# Altium integrated library TI Amplifiers and Linear Special Function Amplifier.IntLib: 708 symbols (part 34 of 47)
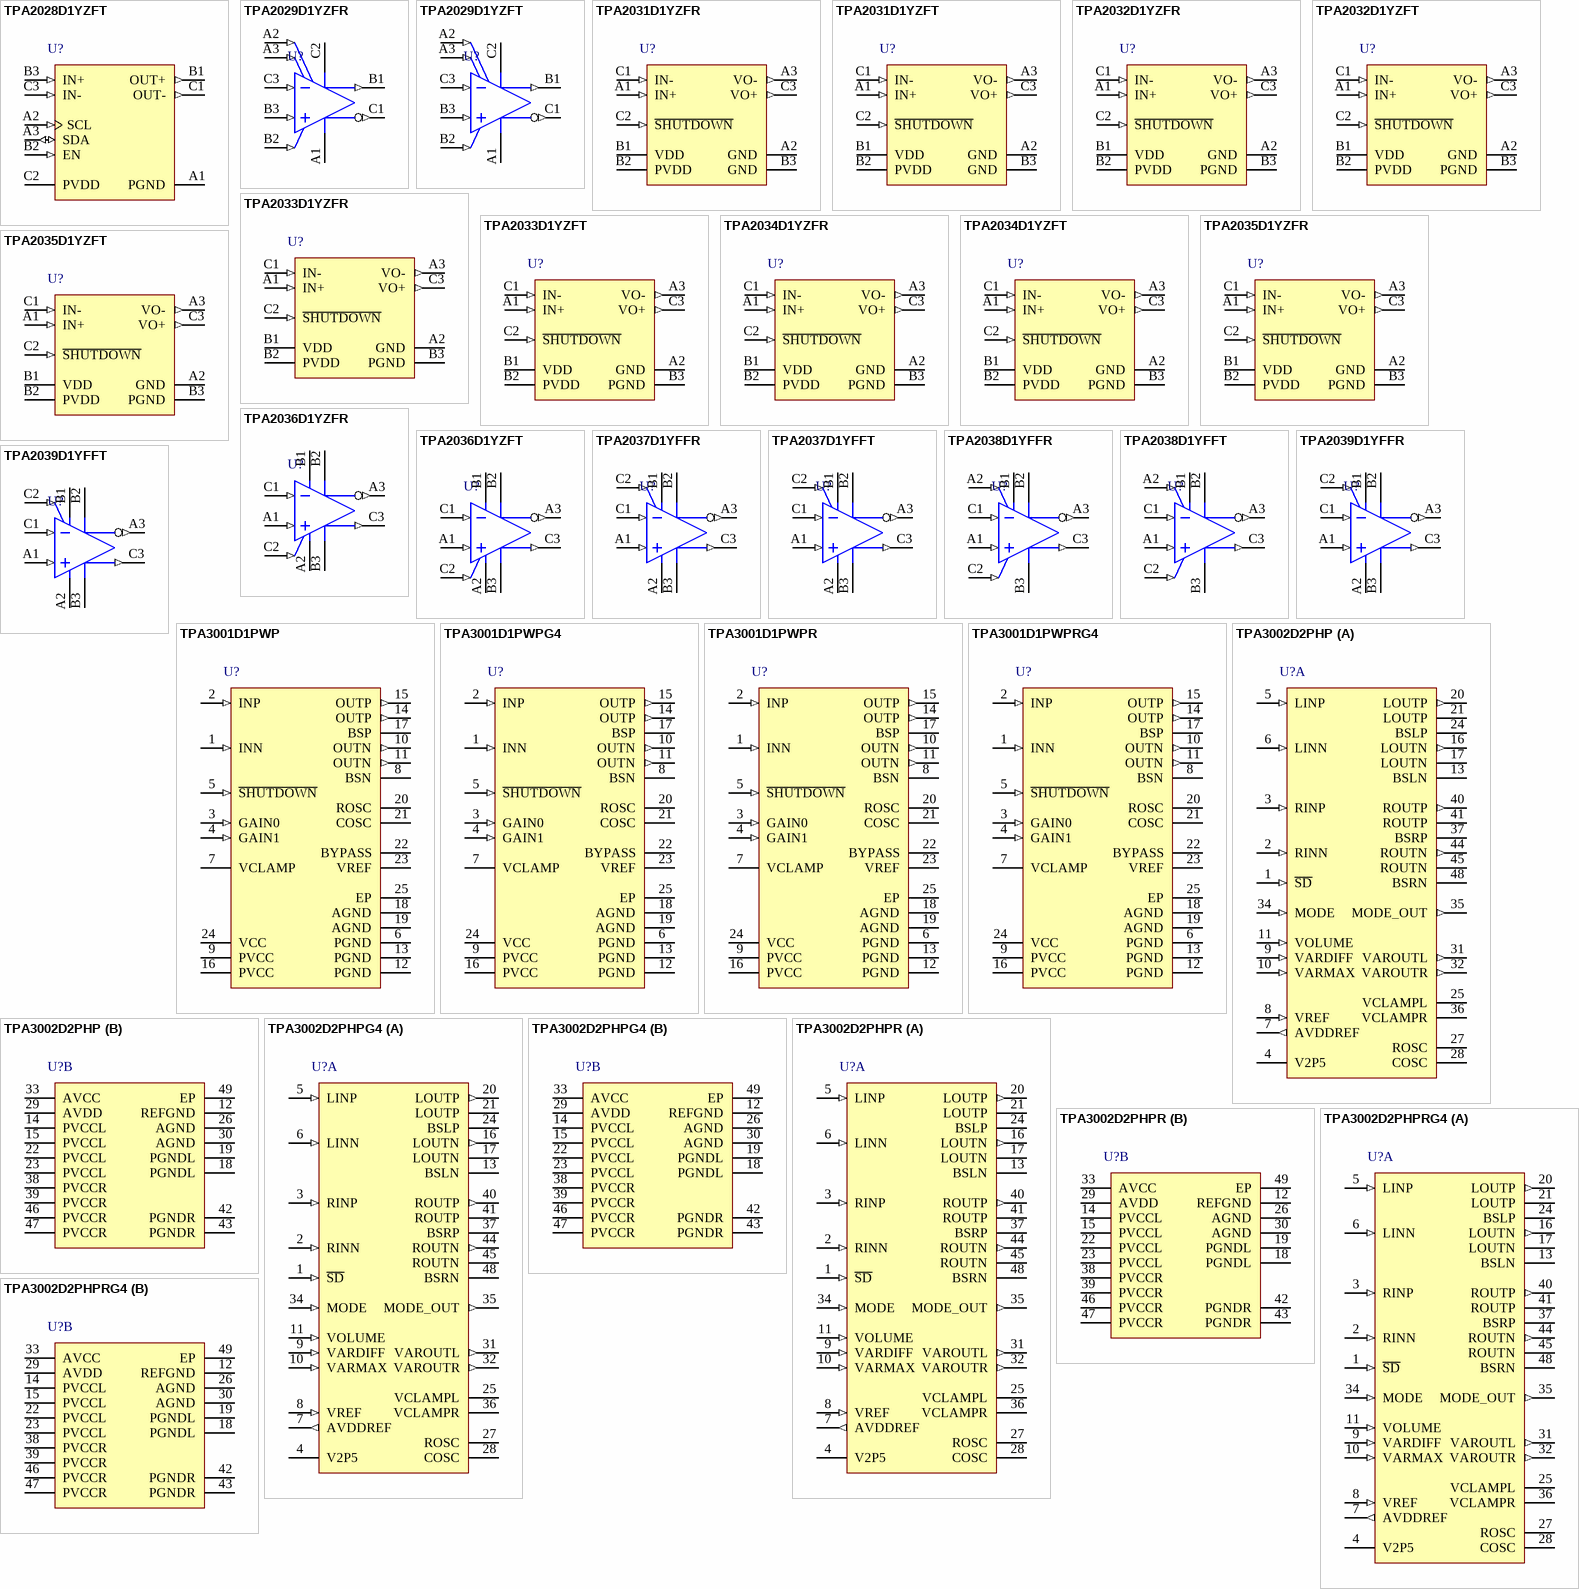
[diagram p72: symbols TPA2028D1YZFT to TPA3002D2PHPRG4]

## TPA2036D1YZFR
designator U?
2.5-W Mono Class-D Audio Amplifier with Variable Gain and Short Circuit Auto-Recovery, -40 to 85 degC, 9-pin BGA (YZF9), Green (RoHS & no Sb/Br); Manufacturer: Texas Instruments; PartNumber: TPA2036D1YZFR; Output Power(W): 2.5; PSRR(dB): -75; SubFamily: Dynamic Speaker; Supply Max(Max)(Volt): 5.5; DatasheetVersion: SLOS589; PackageVersion: 4205058-4/P, 07/2013; PackageReference: YZF9; PackageDescription: 9-Ball Silicon Grid Array, Body 1.625 x 1.625 mm, Pitch 0.5 mm; Supplier 1: Digi-Key; Supplier Part Number 1: 296-23917-2-ND; Supplier 2: Digi-Key; Supplier Part Number 2: 296-23917-1-ND; Supplier 3: Digi-Key; Supplier Part Number 3: 296-23917-6-ND; Supplier 4: Mouser; Supplier Part Number 4: 595-TPA2036D1YZFR; Eco-Plan: Green (RoHS & no Sb/Br); Speaker Amp Type: Class-D; Speaker Channels: Mono; Supply Min(Min)(Volt): 2.5; Mounting Technology: Surface Mount; ComponentLink1Description: Manufacturer URL; ComponentLink1URL: http://www.ti.com/; ComponentLink2Description: Datasheet; ComponentLink2URL: http://www.ti.com/general/docs/lit/getliterature.tsp?genericPartNumber=TPA2036D1&fileType=pdf; ComponentLink3Description: Package Specification; ComponentLink3URL: http://www.ti.com/lit/ml/mxbg027m/mxbg027m.pdf
footprint TI-YZF9 (BGA, 9-Leads, Body 1.6245x1.6245mm, Pitch 0.5mm)
pins: A1 IN+ (in) "Positive differential input", A2 GND (power) "High-current ground", A3 VO- (out) "Negative BTL output", B1 VDD (power) "Power supply", B2 VDD (power) "Power supply", B3 GND (power) "Positive BTL output", C1 IN- (in) "Negative differential input", C2 ~{SHUTDOWN} (in) "Shutdown terminal (active low logic)", C3 VO+ (out) "Positive BTL output"

## TPA2036D1YZFT
designator U?
2.5-W Mono Class-D Audio Amplifier with Variable Gain and Short Circuit Auto-Recovery, -40 to 85 degC, 9-pin BGA (YZF9), Green (RoHS & no Sb/Br); Manufacturer: Texas Instruments; PartNumber: TPA2036D1YZFT; Output Power(W): 2.5; PSRR(dB): -75; SubFamily: Dynamic Speaker; Supply Max(Max)(Volt): 5.5; DatasheetVersion: SLOS589; PackageVersion: 4205058-4/P, 07/2013; PackageReference: YZF9; PackageDescription: 9-Ball Silicon Grid Array, Body 1.625 x 1.625 mm, Pitch 0.5 mm; Supplier 1: Digi-Key; Supplier Part Number 1: 296-32456-2-ND; Supplier 2: Digi-Key; Supplier Part Number 2: 296-32456-1-ND; Supplier 3: Digi-Key; Supplier Part Number 3: 296-32456-6-ND; Supplier 4: Newark; Supplier Part Number 4: 19P7477; Supplier 5: Newark; Supplier Part Number 5: 08X6508; Supplier 6: Mouser; Supplier Part Number 6: 595-TPA2036D1YZFT; Eco-Plan: Green (RoHS & no Sb/Br); Speaker Amp Type: Class-D; Speaker Channels: Mono; Supply Min(Min)(Volt): 2.5; Mounting Technology: Surface Mount; ComponentLink1Description: Manufacturer URL; ComponentLink1URL: http://www.ti.com/; ComponentLink2Description: Datasheet; ComponentLink2URL: http://www.ti.com/general/docs/lit/getliterature.tsp?genericPartNumber=TPA2036D1&fileType=pdf; ComponentLink3Description: Package Specification; ComponentLink3URL: http://www.ti.com/lit/ml/mxbg027m/mxbg027m.pdf
footprint TI-YZF9 (BGA, 9-Leads, Body 1.6245x1.6245mm, Pitch 0.5mm)
pins: A1 IN+ (in) "Positive differential input", A2 GND (power) "High-current ground", A3 VO- (out) "Negative BTL output", B1 VDD (power) "Power supply", B2 VDD (power) "Power supply", B3 GND (power) "Positive BTL output", C1 IN- (in) "Negative differential input", C2 ~{SHUTDOWN} (in) "Shutdown terminal (active low logic)", C3 VO+ (out) "Positive BTL output"

## TPA2037D1YFFR
designator U?
Fixed Gain 3.2 W Mono Class-D with Integrated DAC Noise Filter, -40 to 85 degC, 9-pin BGA (YFF9), Green (RoHS & no Sb/Br); Manufacturer: Texas Instruments; PartNumber: TPA2037D1YFFR; Output Power(W): 3.24; PSRR(dB): 81; SubFamily: Dynamic Speaker; Supply Max(Max)(Volt): 5.5; Supply Min(Min)(Volt): 2.5; DatasheetVersion: SLOS648B; PackageVersion: 4207625-6/AL, 05/2013; PackageReference: YFF9; PackageDescription: 9-Ball Silicon Grid Array, Body 1.214 x 1.16 mm, Pitch 0.4 mm; Supplier 1: Digi-Key; Supplier Part Number 1: 296-25337-2-ND; Supplier 2: Digi-Key; Supplier Part Number 2: 296-25337-1-ND; Supplier 3: Digi-Key; Supplier Part Number 3: 296-25337-6-ND; Supplier 4: Mouser; Supplier Part Number 4: 595-TPA2037D1YFFR; Eco-Plan: Green (RoHS & no Sb/Br); Speaker Amp Type: Class-D; Speaker Channels: Mono; Mounting Technology: Surface Mount; ComponentLink1Description: Manufacturer URL; ComponentLink1URL: http://www.ti.com/; ComponentLink2Description: Datasheet; ComponentLink2URL: http://www.ti.com/general/docs/lit/getliterature.tsp?genericPartNumber=TPA2037D1&fileType=pdf; ComponentLink3Description: Package Specification; ComponentLink3URL: http://www.ti.com/litv/pdf/mxbg144
footprint TI-YFF9-1214X1160DE (BGA, 9-Balls, Body 1.214x1.16mm, Pitch 0.4mm)
pins: A1 IN+ (in) "Positive differential audio input", A2 GND (power) "Analog ground terminal. Must be connected to same potential as PGND using a direct connection to a single point ground.", A3 VO- (out) "Negative BTL audio output", B1 VDD (power) "Power supply terminal. Must be connected to same power supply as PVDD using a direct connection. Voltage must be within values listed in Recommended Operating Conditions table.", B2 PVDD (power) "High-current Power supply terminal. Must be connected to same power supply as VDD using a direct connection. Voltage must be within values listed in Recommended Operating Conditions table.", B3 PGND (power) "High-current Analog ground terminal. Must be connected to same potential as GND using a direct connection to a single point ground.", C1 IN- (in) "Negative differential audio input", C2 EN (in) "Shutdown terminal. When terminal is low the device is put into Shutdown mode.", C3 VO+ (out) "Positive BTL audio output"

## TPA2037D1YFFT
designator U?
Fixed Gain 3.2 W Mono Class-D with Integrated DAC Noise Filter, -40 to 85 degC, 9-pin BGA (YFF9), Green (RoHS & no Sb/Br); Manufacturer: Texas Instruments; PartNumber: TPA2037D1YFFT; Output Power(W): 3.24; PSRR(dB): 81; SubFamily: Dynamic Speaker; Supply Max(Max)(Volt): 5.5; Supply Min(Min)(Volt): 2.5; DatasheetVersion: SLOS648B; PackageVersion: 4207625-6/AL, 05/2013; PackageReference: YFF9; PackageDescription: 9-Ball Silicon Grid Array, Body 1.214 x 1.16 mm, Pitch 0.4 mm; Supplier 1: Digi-Key; Supplier Part Number 1: 296-25343-2-ND; Supplier 2: Digi-Key; Supplier Part Number 2: 296-25343-1-ND; Supplier 3: Digi-Key; Supplier Part Number 3: 296-25343-6-ND; Supplier 4: Newark; Supplier Part Number 4: 51R5928; Supplier 5: Mouser; Supplier Part Number 5: 595-TPA2037D1YFFT; Eco-Plan: Green (RoHS & no Sb/Br); Speaker Amp Type: Class-D; Speaker Channels: Mono; Mounting Technology: Surface Mount; ComponentLink1Description: Manufacturer URL; ComponentLink1URL: http://www.ti.com/; ComponentLink2Description: Datasheet; ComponentLink2URL: http://www.ti.com/general/docs/lit/getliterature.tsp?genericPartNumber=TPA2037D1&fileType=pdf; ComponentLink3Description: Package Specification; ComponentLink3URL: http://www.ti.com/litv/pdf/mxbg144
footprint TI-YFF9-1214X1160DE (BGA, 9-Balls, Body 1.214x1.16mm, Pitch 0.4mm)
pins: A1 IN+ (in) "Positive differential audio input", A2 GND (power) "Analog ground terminal. Must be connected to same potential as PGND using a direct connection to a single point ground.", A3 VO- (out) "Negative BTL audio output", B1 VDD (power) "Power supply terminal. Must be connected to same power supply as PVDD using a direct connection. Voltage must be within values listed in Recommended Operating Conditions table.", B2 PVDD (power) "High-current Power supply terminal. Must be connected to same power supply as VDD using a direct connection. Voltage must be within values listed in Recommended Operating Conditions table.", B3 PGND (power) "High-current Analog ground terminal. Must be connected to same potential as GND using a direct connection to a single point ground.", C1 IN- (in) "Negative differential audio input", C2 EN (in) "Shutdown terminal. When terminal is low the device is put into Shutdown mode.", C3 VO+ (out) "Positive BTL audio output"

## TPA2038D1YFFR
designator U?
Variable Gain 3.2 W Mono Class-D with Integrated DAC Noise Filter, -40 to 85 degC, 9-pin BGA (YFF9), Green (RoHS & no Sb/Br); Manufacturer: Texas Instruments; PartNumber: TPA2038D1YFFR; Output Power(W): 3.24; PSRR(dB): 81; SubFamily: Dynamic Speaker; Supply Max(Max)(Volt): 5.5; Supply Min(Min)(Volt): 2.5; DatasheetVersion: SLOS697A; PackageVersion: 4207625-6/AL, 05/2013; PackageReference: YFF9; PackageDescription: 9-Ball Silicon Grid Array, Body 1.214 x 1.16 mm, Pitch 0.4 mm; Supplier 1: Digi-Key; Supplier Part Number 1: 296-29701-2-ND; Supplier 2: Digi-Key; Supplier Part Number 2: 296-29701-1-ND; Supplier 3: Digi-Key; Supplier Part Number 3: 296-29701-6-ND; Supplier 4: Mouser; Supplier Part Number 4: 595-TPA2038D1YFFR; Eco-Plan: Green (RoHS & no Sb/Br); Speaker Amp Type: Class-D; Speaker Channels: Mono; Mounting Technology: Surface Mount; ComponentLink1Description: Manufacturer URL; ComponentLink1URL: http://www.ti.com/; ComponentLink2Description: Datasheet; ComponentLink2URL: http://www.ti.com/general/docs/lit/getliterature.tsp?genericPartNumber=TPA2038D1&fileType=pdf; ComponentLink3Description: Package Specification; ComponentLink3URL: http://www.ti.com/litv/pdf/mxbg144
footprint TI-YFF9-1214X1160DE (BGA, 9-Balls, Body 1.214x1.16mm, Pitch 0.4mm)
pins: A1 IN+ (in) "Positive audio input.", A2 GAIN (in) "Gain select. Set to GND for 12 dB; set to VDD for 6 dB.", A3 VO- (out) "Negative audio output.", B1 VDD (power) "Power supply terminal. Connect to PVDD using a direct connection.", B2 PVDD (power) "Class-D output power supply. Connect to VDD using a direct connection.", B3 PGND (power) "Ground.", C1 IN- (in) "Negative audio input.", C2 EN (in) "Enable. Set to logic high to enable device.", C3 VO+ (out) "Positive audio output."

## TPA2038D1YFFT
designator U?
Variable Gain 3.2 W Mono Class-D with Integrated DAC Noise Filter, -40 to 85 degC, 9-pin BGA (YFF9), Green (RoHS & no Sb/Br); Manufacturer: Texas Instruments; PartNumber: TPA2038D1YFFT; Output Power(W): 3.24; PSRR(dB): 81; SubFamily: Dynamic Speaker; Supply Max(Max)(Volt): 5.5; Supply Min(Min)(Volt): 2.5; DatasheetVersion: SLOS697A; PackageVersion: 4207625-6/AL, 05/2013; PackageReference: YFF9; PackageDescription: 9-Ball Silicon Grid Array, Body 1.214 x 1.16 mm, Pitch 0.4 mm; Supplier 1: Digi-Key; Supplier Part Number 1: TPA2038D1YFFT-ND; Supplier 2: Newark; Supplier Part Number 2: 71T5430; Supplier 3: Mouser; Supplier Part Number 3: 595-TPA2038D1YFFT; Eco-Plan: Green (RoHS & no Sb/Br); Speaker Amp Type: Class-D; Speaker Channels: Mono; Mounting Technology: Surface Mount; ComponentLink1Description: Manufacturer URL; ComponentLink1URL: http://www.ti.com/; ComponentLink2Description: Datasheet; ComponentLink2URL: http://www.ti.com/general/docs/lit/getliterature.tsp?genericPartNumber=TPA2038D1&fileType=pdf; ComponentLink3Description: Package Specification; ComponentLink3URL: http://www.ti.com/litv/pdf/mxbg144
footprint TI-YFF9-1214X1160DE (BGA, 9-Balls, Body 1.214x1.16mm, Pitch 0.4mm)
pins: A1 IN+ (in) "Positive audio input.", A2 GAIN (in) "Gain select. Set to GND for 12 dB; set to VDD for 6 dB.", A3 VO- (out) "Negative audio output.", B1 VDD (power) "Power supply terminal. Connect to PVDD using a direct connection.", B2 PVDD (power) "Class-D output power supply. Connect to VDD using a direct connection.", B3 PGND (power) "Ground.", C1 IN- (in) "Negative audio input.", C2 EN (in) "Enable. Set to logic high to enable device.", C3 VO+ (out) "Positive audio output."

## TPA2039D1YFFR
designator U?
Fixed Gain 3.2 W Mono Class-D with Integrated DAC Noise Filter, -40 to 85 degC, 9-pin BGA (YFF9), Green (RoHS & no Sb/Br); Manufacturer: Texas Instruments; PartNumber: TPA2039D1YFFR; Output Power(W): 3.24; PSRR(dB): 82; SubFamily: Dynamic Speaker; Supply Max(Max)(Volt): 5.5; Supply Min(Min)(Volt): 2.5; DatasheetVersion: SLOS652A; PackageVersion: 4207625-6/AL, 05/2013; PackageReference: YFF9; PackageDescription: 9-Ball Silicon Grid Array, Body 1.214 x 1.16 mm, Pitch 0.4 mm; Supplier 1: Digi-Key; Supplier Part Number 1: 296-25571-2-ND; Supplier 2: Digi-Key; Supplier Part Number 2: 296-25571-1-ND; Supplier 3: Digi-Key; Supplier Part Number 3: 296-25571-6-ND; Supplier 4: Newark; Supplier Part Number 4: 64R0727; Supplier 5: Mouser; Supplier Part Number 5: 595-TPA2039D1YFFR; Eco-Plan: Green (RoHS & no Sb/Br); Speaker Amp Type: Class-D; Speaker Channels: Mono; Mounting Technology: Surface Mount; ComponentLink1Description: Manufacturer URL; ComponentLink1URL: http://www.ti.com/; ComponentLink2Description: Datasheet; ComponentLink2URL: http://www.ti.com/general/docs/lit/getliterature.tsp?genericPartNumber=TPA2039D1&fileType=pdf; ComponentLink3Description: Package Specification; ComponentLink3URL: http://www.ti.com/litv/pdf/mxbg144
footprint TI-YFF9-1214X1160DE (BGA, 9-Balls, Body 1.214x1.16mm, Pitch 0.4mm)
pins: A1 IN+ (in) "Positive differential audio input", A2 GND (power) "Analog ground terminal. Must be connected to same potential as PGND using a direct connection to a single point ground.", A3 VO- (out) "Negative BTL audio output", B1 VDD (power) "Power supply terminal. Must be connected to same power supply as PVDD using a direct connection. Voltage must be within values listed in Recommended Operating Conditions table.", B2 PVDD (power) "High-current Power supply terminal. Must be connected to same power supply as VDD using a direct connection. Voltage must be within values listed in Recommended Operating Conditions table.", B3 PGND (power) "High-current Analog ground terminal. Must be connected to same potential as GND using a direct connection to a single point ground.", C1 IN- (in) "Negative differential audio input", C2 EN (in) "Shutdown terminal. When terminal is low the device is put into Shutdown mode.", C3 VO+ (out) "Positive BTL audio output"

## TPA2039D1YFFT
designator U?
Fixed Gain 3.2 W Mono Class-D with Integrated DAC Noise Filter, -40 to 85 degC, 9-pin BGA (YFF9), Green (RoHS & no Sb/Br); Manufacturer: Texas Instruments; PartNumber: TPA2039D1YFFT; Output Power(W): 3.24; PSRR(dB): 82; SubFamily: Dynamic Speaker; Supply Max(Max)(Volt): 5.5; Supply Min(Min)(Volt): 2.5; DatasheetVersion: SLOS652A; PackageVersion: 4207625-6/AL, 05/2013; PackageReference: YFF9; PackageDescription: 9-Ball Silicon Grid Array, Body 1.214 x 1.16 mm, Pitch 0.4 mm; Supplier 1: Digi-Key; Supplier Part Number 1: 296-32457-2-ND; Supplier 2: Digi-Key; Supplier Part Number 2: 296-32457-1-ND; Supplier 3: Digi-Key; Supplier Part Number 3: 296-32457-6-ND; Supplier 4: Newark; Supplier Part Number 4: 64R0728; Supplier 5: Mouser; Supplier Part Number 5: 595-TPA2039D1YFFT; Eco-Plan: Green (RoHS & no Sb/Br); Speaker Amp Type: Class-D; Speaker Channels: Mono; Mounting Technology: Surface Mount; ComponentLink1Description: Manufacturer URL; ComponentLink1URL: http://www.ti.com/; ComponentLink2Description: Datasheet; ComponentLink2URL: http://www.ti.com/general/docs/lit/getliterature.tsp?genericPartNumber=TPA2039D1&fileType=pdf; ComponentLink3Description: Package Specification; ComponentLink3URL: http://www.ti.com/litv/pdf/mxbg144
footprint TI-YFF9-1214X1160DE (BGA, 9-Balls, Body 1.214x1.16mm, Pitch 0.4mm)
pins: A1 IN+ (in) "Positive differential audio input", A2 GND (power) "Analog ground terminal. Must be connected to same potential as PGND using a direct connection to a single point ground.", A3 VO- (out) "Negative BTL audio output", B1 VDD (power) "Power supply terminal. Must be connected to same power supply as PVDD using a direct connection. Voltage must be within values listed in Recommended Operating Conditions table.", B2 PVDD (power) "High-current Power supply terminal. Must be connected to same power supply as VDD using a direct connection. Voltage must be within values listed in Recommended Operating Conditions table.", B3 PGND (power) "High-current Analog ground terminal. Must be connected to same potential as GND using a direct connection to a single point ground.", C1 IN- (in) "Negative differential audio input", C2 EN (in) "Shutdown terminal. When terminal is low the device is put into Shutdown mode.", C3 VO+ (out) "Positive BTL audio output"

## TPA3001D1PWP
designator U?
20 W Mono Class-D Audio Power Amplifier, -40 to 85 degC, 24-pin SOP (PWP24), Green (RoHS & no Sb/Br); Manufacturer: Texas Instruments; PartNumber: TPA3001D1PWP; Analog Supply Max [V]: 18; Analog Supply Min [V]: 8; Input Type: Analog; Max. Number of Speaker Outputs: 1; SubFamily: Mid/High-Power Amplifier; DatasheetVersion: SLOS398E; PackageVersion: 4073225-5/I, 05/2011; PackageReference: PWP24-4420X1950TP; PackageDescription: 24-Pin Plastic Small Outline, Body 4.4 x 7.8 mm, Pitch 0.65 mm; Supplier 1: Digi-Key; Supplier Part Number 1: 296-26879-5-ND; Supplier 2: Newark; Supplier Part Number 2: 72K9590; Supplier 3: Mouser; Supplier Part Number 3: 595-TPA3001D1PWP; Eco-Plan: Green (RoHS & no Sb/Br); Power Stage Supply Min(V): 8; Mounting Technology: Surface Mount; Code_JEDEC: MO-153; ComponentLink1Description: Manufacturer URL; ComponentLink1URL: http://www.ti.com/; ComponentLink2Description: Datasheet; ComponentLink2URL: http://www.ti.com/general/docs/lit/getliterature.tsp?genericPartNumber=TPA3001D1&fileType=pdf; ComponentLink3Description: Package Specification; ComponentLink3URL: http://www.ti.com/lit/ds/symlink/tps65101.pdf
footprint TI-PWP24-4420X1950TP_N (SOP, 24-Leads, Body 7.9x4.5mm, Pitch 0.65mm, Thermal Pad 4.87x2.4mm, IPC Medium Density)
footprint TI-PWP24-4420X1950TP_L (SOP, 24-Leads, Body 7.9x4.5mm, Pitch 0.65mm, Thermal Pad 4.87x2.4mm, IPC High Density)
footprint TI-PWP24-4420X1950TP_M (SOP, 24-Leads, Body 7.9x4.5mm, Pitch 0.65mm, Thermal Pad 4.87x2.4mm, IPC Low Density)
pins: 1 INN (in) "Negative differential input", 2 INP (in) "Positive differential input", 3 GAIN0 (in) "Bit 0 of gain control (see Table 1 for gain settings)", 4 GAIN1 (in) "Bit 1 of gain control (see Table 1 for gain settings)", 5 ~{SHUTDOWN} (in) "Shutdown terminal (negative logic), TTL compatible, 21-V compliant", 6 PGND (power) "Power ground", 7 VCLAMP "Connect 1-uF capacitor to ground to provide reference voltage for H-bridge gates", 8 BSN "Bootstrap terminal for high-side gate drive of negative BTL output (connect a 0.22-uF capacitor with a 51-ohm resistor in series from OUTN to BSN)", 9 PVCC (power) "High-voltage power supply (for output stages)", 10 OUTN (out) "Negative BTL output, connect Schottky diode from PGND to OUTN for short-circuit protection", 11 OUTN (out) "Negative BTL output, connect Schottky diode from PGND to OUTN for short-circuit protection", 12 PGND (power) "Power ground", 13 PGND (power) "Power ground", 14 OUTP (out) "Positive BTL output, connect Schottky diode from PGND to OUTP for short-circuit protection", 15 OUTP (out) "Positive BTL output, connect Schottky diode from PGND to OUTP for short-circuit protection", 16 PVCC (power) "High-voltage power supply (for output stages)", 17 BSP "Bootstrap terminal for high-side gate drive of positive BTL output (connect a 0.22-uF capacitor with a 51-ohm resistor in series from OUTP to BSP)", 18 AGND (power) "Analog ground terminal", 19 AGND (power) "Analog ground terminal", 20 ROSC "Connect a 120-kohm resistor to ground to set oscillation frequency", 21 COSC "Connect a 220-pF capacitor to ground to set oscillation frequency", 22 BYPASS "Connect 1-uF capacitor to ground for BYPASS voltage filtering", 23 VREF "5-V internal regulator for control circuitry (connect a 0.1-uF to 1-uF capacitor to ground)", 24 VCC (power) "Analog high-voltage power supply", 25 EP (power) "Connect to AGND and PGND - should be star point for both grounds. Internal resistive connection to AGND. Thermal vias on the PCB should connect this pad to a large copper area on an internal or bottom layer for the best (See Datasheet)"

## TPA3001D1PWPG4
designator U?
20 W Mono Class-D Audio Power Amplifier, -40 to 85 degC, 24-pin SOP (PWP24), Green (RoHS & no Sb/Br); Manufacturer: Texas Instruments; PartNumber: TPA3001D1PWPG4; Analog Supply Max [V]: 18; Analog Supply Min [V]: 8; Input Type: Analog; Max. Number of Speaker Outputs: 1; SubFamily: Mid/High-Power Amplifier; DatasheetVersion: SLOS398E; PackageVersion: 4073225-5/I, 05/2011; PackageReference: PWP24-4420X1950TP; PackageDescription: 24-Pin Plastic Small Outline, Body 4.4 x 7.8 mm, Pitch 0.65 mm; Supplier 1: Digi-Key; Supplier Part Number 1: TPA3001D1PWPG4-ND; Supplier 2: Farnell; Supplier Part Number 2: 1207310; Supplier 3: Newark; Supplier Part Number 3: 24M8502; Supplier 4: Newark; Supplier Part Number 4: 58K6873; Supplier 5: Mouser; Supplier Part Number 5: 595-TPA3001D1PWPG4; Eco-Plan: Green (RoHS & no Sb/Br); Power Stage Supply Min(V): 8; Mounting Technology: Surface Mount; Code_JEDEC: MO-153; ComponentLink1Description: Manufacturer URL; ComponentLink1URL: http://www.ti.com/; ComponentLink2Description: Datasheet; ComponentLink2URL: http://www.ti.com/general/docs/lit/getliterature.tsp?genericPartNumber=TPA3001D1&fileType=pdf; ComponentLink3Description: Package Specification; ComponentLink3URL: http://www.ti.com/lit/ds/symlink/tps65101.pdf
footprint TI-PWP24-4420X1950TP_N (SOP, 24-Leads, Body 7.9x4.5mm, Pitch 0.65mm, Thermal Pad 4.87x2.4mm, IPC Medium Density)
footprint TI-PWP24-4420X1950TP_L (SOP, 24-Leads, Body 7.9x4.5mm, Pitch 0.65mm, Thermal Pad 4.87x2.4mm, IPC High Density)
footprint TI-PWP24-4420X1950TP_M (SOP, 24-Leads, Body 7.9x4.5mm, Pitch 0.65mm, Thermal Pad 4.87x2.4mm, IPC Low Density)
pins: 1 INN (in) "Negative differential input", 2 INP (in) "Positive differential input", 3 GAIN0 (in) "Bit 0 of gain control (see Table 1 for gain settings)", 4 GAIN1 (in) "Bit 1 of gain control (see Table 1 for gain settings)", 5 ~{SHUTDOWN} (in) "Shutdown terminal (negative logic), TTL compatible, 21-V compliant", 6 PGND (power) "Power ground", 7 VCLAMP "Connect 1-uF capacitor to ground to provide reference voltage for H-bridge gates", 8 BSN "Bootstrap terminal for high-side gate drive of negative BTL output (connect a 0.22-uF capacitor with a 51-ohm resistor in series from OUTN to BSN)", 9 PVCC (power) "High-voltage power supply (for output stages)", 10 OUTN (out) "Negative BTL output, connect Schottky diode from PGND to OUTN for short-circuit protection", 11 OUTN (out) "Negative BTL output, connect Schottky diode from PGND to OUTN for short-circuit protection", 12 PGND (power) "Power ground", 13 PGND (power) "Power ground", 14 OUTP (out) "Positive BTL output, connect Schottky diode from PGND to OUTP for short-circuit protection", 15 OUTP (out) "Positive BTL output, connect Schottky diode from PGND to OUTP for short-circuit protection", 16 PVCC (power) "High-voltage power supply (for output stages)", 17 BSP "Bootstrap terminal for high-side gate drive of positive BTL output (connect a 0.22-uF capacitor with a 51-ohm resistor in series from OUTP to BSP)", 18 AGND (power) "Analog ground terminal", 19 AGND (power) "Analog ground terminal", 20 ROSC "Connect a 120-kohm resistor to ground to set oscillation frequency", 21 COSC "Connect a 220-pF capacitor to ground to set oscillation frequency", 22 BYPASS "Connect 1-uF capacitor to ground for BYPASS voltage filtering", 23 VREF "5-V internal regulator for control circuitry (connect a 0.1-uF to 1-uF capacitor to ground)", 24 VCC (power) "Analog high-voltage power supply", 25 EP (power) "Connect to AGND and PGND - should be star point for both grounds. Internal resistive connection to AGND. Thermal vias on the PCB should connect this pad to a large copper area on an internal or bottom layer for the best (See Datasheet)"

## TPA3001D1PWPR
designator U?
20 W Mono Class-D Audio Power Amplifier, -40 to 85 degC, 24-pin SOP (PWP24), Green (RoHS & no Sb/Br); Manufacturer: Texas Instruments; PartNumber: TPA3001D1PWPR; Analog Supply Max [V]: 18; Analog Supply Min [V]: 8; Input Type: Analog; Max. Number of Speaker Outputs: 1; SubFamily: Mid/High-Power Amplifier; DatasheetVersion: SLOS398E; PackageVersion: 4073225-5/I, 05/2011; PackageReference: PWP24-4420X1950TP; PackageDescription: 24-Pin Plastic Small Outline, Body 4.4 x 7.8 mm, Pitch 0.65 mm; Supplier 1: Digi-Key; Supplier Part Number 1: 296-14200-2-ND; Supplier 2: Digi-Key; Supplier Part Number 2: 296-14200-1-ND; Supplier 3: Digi-Key; Supplier Part Number 3: 296-14200-6-ND; Supplier 4: Farnell; Supplier Part Number 4: 1575458; Supplier 5: Newark; Supplier Part Number 5: 74K3973; Supplier 6: Mouser; Supplier Part Number 6: 595-TPA3001D1PWPR; Eco-Plan: Green (RoHS & no Sb/Br); Power Stage Supply Min(V): 8; Mounting Technology: Surface Mount; Code_JEDEC: MO-153; ComponentLink1Description: Manufacturer URL; ComponentLink1URL: http://www.ti.com/; ComponentLink2Description: Datasheet; ComponentLink2URL: http://www.ti.com/general/docs/lit/getliterature.tsp?genericPartNumber=TPA3001D1&fileType=pdf; ComponentLink3Description: Package Specification; ComponentLink3URL: http://www.ti.com/lit/ds/symlink/tps65101.pdf
footprint TI-PWP24-4420X1950TP_N (SOP, 24-Leads, Body 7.9x4.5mm, Pitch 0.65mm, Thermal Pad 4.87x2.4mm, IPC Medium Density)
footprint TI-PWP24-4420X1950TP_L (SOP, 24-Leads, Body 7.9x4.5mm, Pitch 0.65mm, Thermal Pad 4.87x2.4mm, IPC High Density)
footprint TI-PWP24-4420X1950TP_M (SOP, 24-Leads, Body 7.9x4.5mm, Pitch 0.65mm, Thermal Pad 4.87x2.4mm, IPC Low Density)
pins: 1 INN (in) "Negative differential input", 2 INP (in) "Positive differential input", 3 GAIN0 (in) "Bit 0 of gain control (see Table 1 for gain settings)", 4 GAIN1 (in) "Bit 1 of gain control (see Table 1 for gain settings)", 5 ~{SHUTDOWN} (in) "Shutdown terminal (negative logic), TTL compatible, 21-V compliant", 6 PGND (power) "Power ground", 7 VCLAMP "Connect 1-uF capacitor to ground to provide reference voltage for H-bridge gates", 8 BSN "Bootstrap terminal for high-side gate drive of negative BTL output (connect a 0.22-uF capacitor with a 51-ohm resistor in series from OUTN to BSN)", 9 PVCC (power) "High-voltage power supply (for output stages)", 10 OUTN (out) "Negative BTL output, connect Schottky diode from PGND to OUTN for short-circuit protection", 11 OUTN (out) "Negative BTL output, connect Schottky diode from PGND to OUTN for short-circuit protection", 12 PGND (power) "Power ground", 13 PGND (power) "Power ground", 14 OUTP (out) "Positive BTL output, connect Schottky diode from PGND to OUTP for short-circuit protection", 15 OUTP (out) "Positive BTL output, connect Schottky diode from PGND to OUTP for short-circuit protection", 16 PVCC (power) "High-voltage power supply (for output stages)", 17 BSP "Bootstrap terminal for high-side gate drive of positive BTL output (connect a 0.22-uF capacitor with a 51-ohm resistor in series from OUTP to BSP)", 18 AGND (power) "Analog ground terminal", 19 AGND (power) "Analog ground terminal", 20 ROSC "Connect a 120-kohm resistor to ground to set oscillation frequency", 21 COSC "Connect a 220-pF capacitor to ground to set oscillation frequency", 22 BYPASS "Connect 1-uF capacitor to ground for BYPASS voltage filtering", 23 VREF "5-V internal regulator for control circuitry (connect a 0.1-uF to 1-uF capacitor to ground)", 24 VCC (power) "Analog high-voltage power supply", 25 EP (power) "Connect to AGND and PGND - should be star point for both grounds. Internal resistive connection to AGND. Thermal vias on the PCB should connect this pad to a large copper area on an internal or bottom layer for the best (See Datasheet)"

## TPA3001D1PWPRG4
designator U?
20 W Mono Class-D Audio Power Amplifier, -40 to 85 degC, 24-pin SOP (PWP24), Green (RoHS & no Sb/Br); Manufacturer: Texas Instruments; PartNumber: TPA3001D1PWPRG4; Analog Supply Max [V]: 18; Analog Supply Min [V]: 8; Input Type: Analog; Max. Number of Speaker Outputs: 1; SubFamily: Mid/High-Power Amplifier; DatasheetVersion: SLOS398E; PackageVersion: 4073225-5/I, 05/2011; PackageReference: PWP24-4420X1950TP; PackageDescription: 24-Pin Plastic Small Outline, Body 4.4 x 7.8 mm, Pitch 0.65 mm; Supplier 1: Digi-Key; Supplier Part Number 1: TPA3001D1PWPRG4-ND; Supplier 2: Newark; Supplier Part Number 2: 08K4918; Supplier 3: Mouser; Supplier Part Number 3: 595-TPA3001D1PWPRG4; Eco-Plan: Green (RoHS & no Sb/Br); Power Stage Supply Min(V): 8; Mounting Technology: Surface Mount; Code_JEDEC: MO-153; ComponentLink1Description: Manufacturer URL; ComponentLink1URL: http://www.ti.com/; ComponentLink2Description: Datasheet; ComponentLink2URL: http://www.ti.com/general/docs/lit/getliterature.tsp?genericPartNumber=TPA3001D1&fileType=pdf; ComponentLink3Description: Package Specification; ComponentLink3URL: http://www.ti.com/lit/ds/symlink/tps65101.pdf
footprint TI-PWP24-4420X1950TP_N (SOP, 24-Leads, Body 7.9x4.5mm, Pitch 0.65mm, Thermal Pad 4.87x2.4mm, IPC Medium Density)
footprint TI-PWP24-4420X1950TP_L (SOP, 24-Leads, Body 7.9x4.5mm, Pitch 0.65mm, Thermal Pad 4.87x2.4mm, IPC High Density)
footprint TI-PWP24-4420X1950TP_M (SOP, 24-Leads, Body 7.9x4.5mm, Pitch 0.65mm, Thermal Pad 4.87x2.4mm, IPC Low Density)
pins: 1 INN (in) "Negative differential input", 2 INP (in) "Positive differential input", 3 GAIN0 (in) "Bit 0 of gain control (see Table 1 for gain settings)", 4 GAIN1 (in) "Bit 1 of gain control (see Table 1 for gain settings)", 5 ~{SHUTDOWN} (in) "Shutdown terminal (negative logic), TTL compatible, 21-V compliant", 6 PGND (power) "Power ground", 7 VCLAMP "Connect 1-uF capacitor to ground to provide reference voltage for H-bridge gates", 8 BSN "Bootstrap terminal for high-side gate drive of negative BTL output (connect a 0.22-uF capacitor with a 51-ohm resistor in series from OUTN to BSN)", 9 PVCC (power) "High-voltage power supply (for output stages)", 10 OUTN (out) "Negative BTL output, connect Schottky diode from PGND to OUTN for short-circuit protection", 11 OUTN (out) "Negative BTL output, connect Schottky diode from PGND to OUTN for short-circuit protection", 12 PGND (power) "Power ground", 13 PGND (power) "Power ground", 14 OUTP (out) "Positive BTL output, connect Schottky diode from PGND to OUTP for short-circuit protection", 15 OUTP (out) "Positive BTL output, connect Schottky diode from PGND to OUTP for short-circuit protection", 16 PVCC (power) "High-voltage power supply (for output stages)", 17 BSP "Bootstrap terminal for high-side gate drive of positive BTL output (connect a 0.22-uF capacitor with a 51-ohm resistor in series from OUTP to BSP)", 18 AGND (power) "Analog ground terminal", 19 AGND (power) "Analog ground terminal", 20 ROSC "Connect a 120-kohm resistor to ground to set oscillation frequency", 21 COSC "Connect a 220-pF capacitor to ground to set oscillation frequency", 22 BYPASS "Connect 1-uF capacitor to ground for BYPASS voltage filtering", 23 VREF "5-V internal regulator for control circuitry (connect a 0.1-uF to 1-uF capacitor to ground)", 24 VCC (power) "Analog high-voltage power supply", 25 EP (power) "Connect to AGND and PGND - should be star point for both grounds. Internal resistive connection to AGND. Thermal vias on the PCB should connect this pad to a large copper area on an internal or bottom layer for the best (See Datasheet)"

## TPA3002D2PHP
designator U?
9 W Stereo Class-D Audio Power Amplifier with Volume Control, -40 to 85 degC, 48-pin QFP (PHP48), Green (RoHS & no Sb/Br); Manufacturer: Texas Instruments; PartNumber: TPA3002D2PHP; Analog Supply Max [V]: 14; Analog Supply Min [V]: 8.5; Input Type: Analog; Max. Number of Speaker Outputs: 2; SubFamily: Mid/High-Power Amplifier; DatasheetVersion: SLOS402C; PackageVersion: 4146927/B, 08/2003; PackageReference: PHP48-4385X4385TP; PackageDescription: 48-Pin PowerPAD(TM) Plastic Quad Flatpack, Body 7 x 7 mm, Pitch 0.5 mm; Supplier 1: Digi-Key; Supplier Part Number 1: TPA3002D2PHP-ND; Supplier 2: Mouser; Supplier Part Number 2: 595-TPA3002D2PHP; Eco-Plan: Green (RoHS & no Sb/Br); Power Stage Supply Min(V): 8.5; Mounting Technology: Surface Mount; Code_JEDEC: MS-026; ComponentLink1Description: Manufacturer URL; ComponentLink1URL: http://www.ti.com/; ComponentLink2Description: Datasheet; ComponentLink2URL: http://www.ti.com/general/docs/lit/getliterature.tsp?genericPartNumber=TPA3002D2&fileType=pdf; ComponentLink3Description: Package Specification; ComponentLink3URL: http://www.ti.com/litv/pdf/mpdi001b
footprint TI-PHP48-4385X4385TP_N (QFP, 48-Leads, Body 7x7mm, Pitch 0.5mm, Thermal Pad 4.9x4.9mm, IPC Medium Density)
footprint TI-PHP48-4385X4385TP_L (QFP, 48-Leads, Body 7x7mm, Pitch 0.5mm, Thermal Pad 4.9x4.9mm, IPC High Density)
footprint TI-PHP48-4385X4385TP_M (QFP, 48-Leads, Body 7x7mm, Pitch 0.5mm, Thermal Pad 4.9x4.9mm, IPC Low Density)
part A pins: 1 ~{SD} (in) "Shutdown signal for IC (low = shutdown, high = operational). TTL logic levels with compliance to VCC.", 2 RINN (in) "Negative differential audio input for right channel", 3 RINP (in) "Positive differential audio input for right channel", 4 V2P5 "2.5-V Reference for analog cells, as well as reference for unused audio input when using single-ended inputs.", 5 LINP (in) "Positive differential audio input for left channel", 6 LINN (in) "Negative differential audio input for left channel", 7 AVDDREF (out) "5-V Reference output-provided for connection to adjacent VREF terminal.", 8 VREF (in) "Analog reference for gain control section.", 9 VARDIFF (in) "DC voltage to set the difference in gain between the Class-D and VAROUT outputs. Connect to GND or AVDDREF if VAROUT outputs are unconnected.", 10 VARMAX (in) "DC voltage that sets the maximum gain for the VAROUT outputs. Connect to GND or AVDDREF if VAROUT outputs are unconnected.", 11 VOLUME (in) "DC voltage that sets the gain of the amplifier.", 13 BSLN "Bootstrap I/O for left channel, negative high-side FET", 16 LOUTN (out) "Class-D 1/2-H-bridge negative output for left channel", 17 LOUTN "Class-D 1/2-H-bridge negative output for left channel", 20 LOUTP (out) "Class-D 1/2-H-bridge positive output for left channel", 21 LOUTP "Class-D 1/2-H-bridge positive output for left channel", 24 BSLP "Bootstrap I/O for left channel, positive high-side FET", 25 VCLAMPL "Internally generated voltage supply for left channel bootstrap capacitors.", 27 ROSC "Current setting resistor for ramp generator. Nominally equal to 1/8*VCC", 28 COSC "I/O for charge/discharging currents onto capacitor for ramp generator triangle wave biased at V2P5", 31 VAROUTL (out) "Variable output for left channel audio. Line level output for driving external HP amplifier.", 32 VAROUTR (out) "Variable output for right channel audio. Line level output for driving external HP amplifier.", 34 MODE (in) "Input for MODE control. A logic high on this pin places the amplifier in the variable output mode and the Class-D outputs are disabled. A logic low on this pin places the amplifier in the Class-D mode and Class-D stereo (See Datasheet)", 35 MODE_OUT (out) "Output for control of the variable output amplifiers. When the MODE pin (34) is a logic high, the MODE_OUT pin is driven low. When the MODE pin (34) is a logic low, the MODE_OUT pin is driven high. This pin is intended for (See Datasheet)", 36 VCLAMPR "Internally generated voltage supply for right channel bootstrap capacitors.", 37 BSRP "Bootstrap I/O for right channel, positive high-side FET", 40 ROUTP (out) "Class-D 1/2-H-bridge positive output for right channel", 41 ROUTP "Class-D 1/2-H-bridge positive output for right channel", 44 ROUTN (out) "Class-D 1/2-H-bridge negative output for right channel", 45 ROUTN "Class-D 1/2-H-bridge negative output for right channel", 48 BSRN "Bootstrap I/O for right channel, negative high-side FET"
part B pins: 12 REFGND (power) "Ground for gain control circuitry. Connect to AGND. If using a DAC to control the volume, connect the DAC ground to this terminal.", 14 PVCCL (power) "Power supply for left channel H-bridge (tied to pins 22 and 23 internally), not connected to PVCCR or AVCC.", 15 PVCCL (power) "Power supply for left channel H-bridge (tied to pins 22 and 23 internally), not connected to PVCCR or AVCC.", 18 PGNDL (power) "Power ground for left channel H-bridge", 19 PGNDL (power) "Power ground for left channel H-bridge", 22 PVCCL (power) "Power supply for left channel H-bridge (tied to pins 14 and 15 internally), not connected to PVCCR or AVCC.", 23 PVCCL (power) "Power supply for left channel H-bridge (tied to pins 14 and 15 internally), not connected to PVCCR or AVCC.", 26 AGND (power) "Analog ground for digital/analog cells in core", 29 AVDD (power) "5-V Regulated output capable of 100-mA output", 30 AGND (power) "Analog ground for digital/analog cells in core", 33 AVCC (power) "High-voltage analog power supply (8.5 V to 14 V)", 38 PVCCR (power) "Power supply for right channel H-bridge (tied to pins 46 and 47 internally), not connected to PVCCR or AVCC.", 39 PVCCR (power) "Power supply for right channel H-bridge (tied to pins 46 and 47 internally), not connected to PVCCR or AVCC.", 42 PGNDR (power) "Power ground for right channel H-bridge", 43 PGNDR (power) "Power ground for right channel H-bridge", 46 PVCCR (power) "Power supply for right channel H-bridge (tied to pins 38 and 39 internally), not connected to PVCCL or AVCC.", 47 PVCCR (power) "Power supply for right channel H-bridge (tied to pins 38 and 39 internally), not connected to PVCCL or AVCC.", 49 EP (power) "Connect to AGND and PGND-should be center point for both grounds."

## TPA3002D2PHPG4
designator U?
9 W Stereo Class-D Audio Power Amplifier with Volume Control, -40 to 85 degC, 48-pin QFP (PHP48), Green (RoHS & no Sb/Br); Manufacturer: Texas Instruments; PartNumber: TPA3002D2PHPG4; Analog Supply Max [V]: 14; Analog Supply Min [V]: 8.5; Input Type: Analog; Max. Number of Speaker Outputs: 2; SubFamily: Mid/High-Power Amplifier; DatasheetVersion: SLOS402C; PackageVersion: 4146927/B, 08/2003; PackageReference: PHP48-4385X4385TP; PackageDescription: 48-Pin PowerPAD(TM) Plastic Quad Flatpack, Body 7 x 7 mm, Pitch 0.5 mm; Supplier 1: Digi-Key; Supplier Part Number 1: TPA3002D2PHPG4-ND; Supplier 2: Mouser; Supplier Part Number 2: 595-TPA3002D2PHPG4; Eco-Plan: Green (RoHS & no Sb/Br); Power Stage Supply Min(V): 8.5; Mounting Technology: Surface Mount; Code_JEDEC: MS-026; ComponentLink1Description: Manufacturer URL; ComponentLink1URL: http://www.ti.com/; ComponentLink2Description: Datasheet; ComponentLink2URL: http://www.ti.com/general/docs/lit/getliterature.tsp?genericPartNumber=TPA3002D2&fileType=pdf; ComponentLink3Description: Package Specification; ComponentLink3URL: http://www.ti.com/litv/pdf/mpdi001b
footprint TI-PHP48-4385X4385TP_N (QFP, 48-Leads, Body 7x7mm, Pitch 0.5mm, Thermal Pad 4.9x4.9mm, IPC Medium Density)
footprint TI-PHP48-4385X4385TP_L (QFP, 48-Leads, Body 7x7mm, Pitch 0.5mm, Thermal Pad 4.9x4.9mm, IPC High Density)
footprint TI-PHP48-4385X4385TP_M (QFP, 48-Leads, Body 7x7mm, Pitch 0.5mm, Thermal Pad 4.9x4.9mm, IPC Low Density)
part A pins: 1 ~{SD} (in) "Shutdown signal for IC (low = shutdown, high = operational). TTL logic levels with compliance to VCC.", 2 RINN (in) "Negative differential audio input for right channel", 3 RINP (in) "Positive differential audio input for right channel", 4 V2P5 "2.5-V Reference for analog cells, as well as reference for unused audio input when using single-ended inputs.", 5 LINP (in) "Positive differential audio input for left channel", 6 LINN (in) "Negative differential audio input for left channel", 7 AVDDREF (out) "5-V Reference output-provided for connection to adjacent VREF terminal.", 8 VREF (in) "Analog reference for gain control section.", 9 VARDIFF (in) "DC voltage to set the difference in gain between the Class-D and VAROUT outputs. Connect to GND or AVDDREF if VAROUT outputs are unconnected.", 10 VARMAX (in) "DC voltage that sets the maximum gain for the VAROUT outputs. Connect to GND or AVDDREF if VAROUT outputs are unconnected.", 11 VOLUME (in) "DC voltage that sets the gain of the amplifier.", 13 BSLN "Bootstrap I/O for left channel, negative high-side FET", 16 LOUTN (out) "Class-D 1/2-H-bridge negative output for left channel", 17 LOUTN "Class-D 1/2-H-bridge negative output for left channel", 20 LOUTP (out) "Class-D 1/2-H-bridge positive output for left channel", 21 LOUTP "Class-D 1/2-H-bridge positive output for left channel", 24 BSLP "Bootstrap I/O for left channel, positive high-side FET", 25 VCLAMPL "Internally generated voltage supply for left channel bootstrap capacitors.", 27 ROSC "Current setting resistor for ramp generator. Nominally equal to 1/8*VCC", 28 COSC "I/O for charge/discharging currents onto capacitor for ramp generator triangle wave biased at V2P5", 31 VAROUTL (out) "Variable output for left channel audio. Line level output for driving external HP amplifier.", 32 VAROUTR (out) "Variable output for right channel audio. Line level output for driving external HP amplifier.", 34 MODE (in) "Input for MODE control. A logic high on this pin places the amplifier in the variable output mode and the Class-D outputs are disabled. A logic low on this pin places the amplifier in the Class-D mode and Class-D stereo (See Datasheet)", 35 MODE_OUT (out) "Output for control of the variable output amplifiers. When the MODE pin (34) is a logic high, the MODE_OUT pin is driven low. When the MODE pin (34) is a logic low, the MODE_OUT pin is driven high. This pin is intended for (See Datasheet)", 36 VCLAMPR "Internally generated voltage supply for right channel bootstrap capacitors.", 37 BSRP "Bootstrap I/O for right channel, positive high-side FET", 40 ROUTP (out) "Class-D 1/2-H-bridge positive output for right channel", 41 ROUTP "Class-D 1/2-H-bridge positive output for right channel", 44 ROUTN (out) "Class-D 1/2-H-bridge negative output for right channel", 45 ROUTN "Class-D 1/2-H-bridge negative output for right channel", 48 BSRN "Bootstrap I/O for right channel, negative high-side FET"
part B pins: 12 REFGND (power) "Ground for gain control circuitry. Connect to AGND. If using a DAC to control the volume, connect the DAC ground to this terminal.", 14 PVCCL (power) "Power supply for left channel H-bridge (tied to pins 22 and 23 internally), not connected to PVCCR or AVCC.", 15 PVCCL (power) "Power supply for left channel H-bridge (tied to pins 22 and 23 internally), not connected to PVCCR or AVCC.", 18 PGNDL (power) "Power ground for left channel H-bridge", 19 PGNDL (power) "Power ground for left channel H-bridge", 22 PVCCL (power) "Power supply for left channel H-bridge (tied to pins 14 and 15 internally), not connected to PVCCR or AVCC.", 23 PVCCL (power) "Power supply for left channel H-bridge (tied to pins 14 and 15 internally), not connected to PVCCR or AVCC.", 26 AGND (power) "Analog ground for digital/analog cells in core", 29 AVDD (power) "5-V Regulated output capable of 100-mA output", 30 AGND (power) "Analog ground for digital/analog cells in core", 33 AVCC (power) "High-voltage analog power supply (8.5 V to 14 V)", 38 PVCCR (power) "Power supply for right channel H-bridge (tied to pins 46 and 47 internally), not connected to PVCCR or AVCC.", 39 PVCCR (power) "Power supply for right channel H-bridge (tied to pins 46 and 47 internally), not connected to PVCCR or AVCC.", 42 PGNDR (power) "Power ground for right channel H-bridge", 43 PGNDR (power) "Power ground for right channel H-bridge", 46 PVCCR (power) "Power supply for right channel H-bridge (tied to pins 38 and 39 internally), not connected to PVCCL or AVCC.", 47 PVCCR (power) "Power supply for right channel H-bridge (tied to pins 38 and 39 internally), not connected to PVCCL or AVCC.", 49 EP (power) "Connect to AGND and PGND-should be center point for both grounds."

## TPA3002D2PHPR
designator U?
9 W Stereo Class-D Audio Power Amplifier with Volume Control, -40 to 85 degC, 48-pin QFP (PHP48), Green (RoHS & no Sb/Br); Manufacturer: Texas Instruments; PartNumber: TPA3002D2PHPR; Analog Supply Max [V]: 14; Analog Supply Min [V]: 8.5; Input Type: Analog; Max. Number of Speaker Outputs: 2; SubFamily: Mid/High-Power Amplifier; DatasheetVersion: SLOS402C; PackageVersion: 4146927/B, 08/2003; PackageReference: PHP48-4385X4385TP; PackageDescription: 48-Pin PowerPAD(TM) Plastic Quad Flatpack, Body 7 x 7 mm, Pitch 0.5 mm; Supplier 1: Digi-Key; Supplier Part Number 1: 296-14201-2-ND; Supplier 2: Digi-Key; Supplier Part Number 2: 296-14201-1-ND; Supplier 3: Digi-Key; Supplier Part Number 3: 296-14201-6-ND; Supplier 4: Newark; Supplier Part Number 4: 72K9591; Supplier 5: Mouser; Supplier Part Number 5: 595-TPA3002D2PHPR; Eco-Plan: Green (RoHS & no Sb/Br); Power Stage Supply Min(V): 8.5; Mounting Technology: Surface Mount; Code_JEDEC: MS-026; ComponentLink1Description: Manufacturer URL; ComponentLink1URL: http://www.ti.com/; ComponentLink2Description: Datasheet; ComponentLink2URL: http://www.ti.com/general/docs/lit/getliterature.tsp?genericPartNumber=TPA3002D2&fileType=pdf; ComponentLink3Description: Package Specification; ComponentLink3URL: http://www.ti.com/litv/pdf/mpdi001b
footprint TI-PHP48-4385X4385TP_N (QFP, 48-Leads, Body 7x7mm, Pitch 0.5mm, Thermal Pad 4.9x4.9mm, IPC Medium Density)
footprint TI-PHP48-4385X4385TP_L (QFP, 48-Leads, Body 7x7mm, Pitch 0.5mm, Thermal Pad 4.9x4.9mm, IPC High Density)
footprint TI-PHP48-4385X4385TP_M (QFP, 48-Leads, Body 7x7mm, Pitch 0.5mm, Thermal Pad 4.9x4.9mm, IPC Low Density)
part A pins: 1 ~{SD} (in) "Shutdown signal for IC (low = shutdown, high = operational). TTL logic levels with compliance to VCC.", 2 RINN (in) "Negative differential audio input for right channel", 3 RINP (in) "Positive differential audio input for right channel", 4 V2P5 "2.5-V Reference for analog cells, as well as reference for unused audio input when using single-ended inputs.", 5 LINP (in) "Positive differential audio input for left channel", 6 LINN (in) "Negative differential audio input for left channel", 7 AVDDREF (out) "5-V Reference output-provided for connection to adjacent VREF terminal.", 8 VREF (in) "Analog reference for gain control section.", 9 VARDIFF (in) "DC voltage to set the difference in gain between the Class-D and VAROUT outputs. Connect to GND or AVDDREF if VAROUT outputs are unconnected.", 10 VARMAX (in) "DC voltage that sets the maximum gain for the VAROUT outputs. Connect to GND or AVDDREF if VAROUT outputs are unconnected.", 11 VOLUME (in) "DC voltage that sets the gain of the amplifier.", 13 BSLN "Bootstrap I/O for left channel, negative high-side FET", 16 LOUTN (out) "Class-D 1/2-H-bridge negative output for left channel", 17 LOUTN "Class-D 1/2-H-bridge negative output for left channel", 20 LOUTP (out) "Class-D 1/2-H-bridge positive output for left channel", 21 LOUTP "Class-D 1/2-H-bridge positive output for left channel", 24 BSLP "Bootstrap I/O for left channel, positive high-side FET", 25 VCLAMPL "Internally generated voltage supply for left channel bootstrap capacitors.", 27 ROSC "Current setting resistor for ramp generator. Nominally equal to 1/8*VCC", 28 COSC "I/O for charge/discharging currents onto capacitor for ramp generator triangle wave biased at V2P5", 31 VAROUTL (out) "Variable output for left channel audio. Line level output for driving external HP amplifier.", 32 VAROUTR (out) "Variable output for right channel audio. Line level output for driving external HP amplifier.", 34 MODE (in) "Input for MODE control. A logic high on this pin places the amplifier in the variable output mode and the Class-D outputs are disabled. A logic low on this pin places the amplifier in the Class-D mode and Class-D stereo (See Datasheet)", 35 MODE_OUT (out) "Output for control of the variable output amplifiers. When the MODE pin (34) is a logic high, the MODE_OUT pin is driven low. When the MODE pin (34) is a logic low, the MODE_OUT pin is driven high. This pin is intended for (See Datasheet)", 36 VCLAMPR "Internally generated voltage supply for right channel bootstrap capacitors.", 37 BSRP "Bootstrap I/O for right channel, positive high-side FET", 40 ROUTP (out) "Class-D 1/2-H-bridge positive output for right channel", 41 ROUTP "Class-D 1/2-H-bridge positive output for right channel", 44 ROUTN (out) "Class-D 1/2-H-bridge negative output for right channel", 45 ROUTN "Class-D 1/2-H-bridge negative output for right channel", 48 BSRN "Bootstrap I/O for right channel, negative high-side FET"
part B pins: 12 REFGND (power) "Ground for gain control circuitry. Connect to AGND. If using a DAC to control the volume, connect the DAC ground to this terminal.", 14 PVCCL (power) "Power supply for left channel H-bridge (tied to pins 22 and 23 internally), not connected to PVCCR or AVCC.", 15 PVCCL (power) "Power supply for left channel H-bridge (tied to pins 22 and 23 internally), not connected to PVCCR or AVCC.", 18 PGNDL (power) "Power ground for left channel H-bridge", 19 PGNDL (power) "Power ground for left channel H-bridge", 22 PVCCL (power) "Power supply for left channel H-bridge (tied to pins 14 and 15 internally), not connected to PVCCR or AVCC.", 23 PVCCL (power) "Power supply for left channel H-bridge (tied to pins 14 and 15 internally), not connected to PVCCR or AVCC.", 26 AGND (power) "Analog ground for digital/analog cells in core", 29 AVDD (power) "5-V Regulated output capable of 100-mA output", 30 AGND (power) "Analog ground for digital/analog cells in core", 33 AVCC (power) "High-voltage analog power supply (8.5 V to 14 V)", 38 PVCCR (power) "Power supply for right channel H-bridge (tied to pins 46 and 47 internally), not connected to PVCCR or AVCC.", 39 PVCCR (power) "Power supply for right channel H-bridge (tied to pins 46 and 47 internally), not connected to PVCCR or AVCC.", 42 PGNDR (power) "Power ground for right channel H-bridge", 43 PGNDR (power) "Power ground for right channel H-bridge", 46 PVCCR (power) "Power supply for right channel H-bridge (tied to pins 38 and 39 internally), not connected to PVCCL or AVCC.", 47 PVCCR (power) "Power supply for right channel H-bridge (tied to pins 38 and 39 internally), not connected to PVCCL or AVCC.", 49 EP (power) "Connect to AGND and PGND-should be center point for both grounds."